# EAGLE library part TPS73801 (library radar)
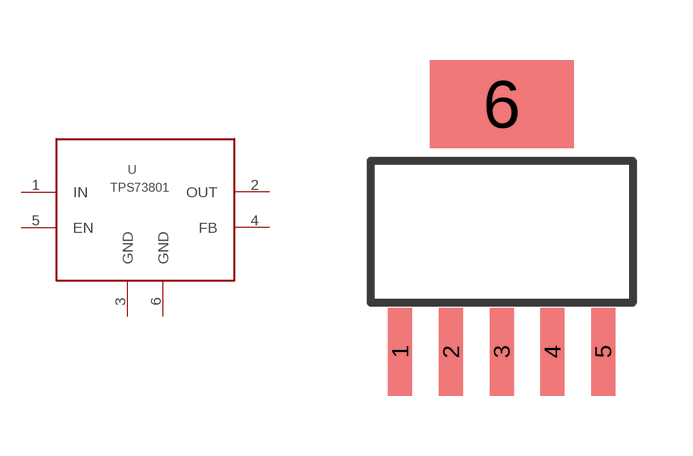
[diagram p0: symbol with the pads of SOT223-6; footprint SOT223-6]

Designator prefix -

## TPS73801 (DIGI: 296-39489-1-ND)  [SOT223-6]
1  IN
2  OUT
3  GND
4  FB
5  EN
6  GND

## Footprint SOT223-6 (pad centres in mm)
Small Outline Transistor
smd 0.6 x 2.2: 1 -2.54,-3; 2 -1.27,-3; 3 0,-3; 4 1.27,-3; 5 2.54,-3
smd 3.6 x 2.2: 6 0,3.2